# Altium footprint library Basics.PcbLib: 19 footprints (part 1 of 2)
Each footprint in its own frame and in the unit in brackets; x right, y up, seen from the top. Pads: shape width x height; smd on the part's side, far side on the other; paste and mask are expansions set on the pad; w line width, h text height; cw(c..) or ccw(c..) is an arc to the next point about the centre after c.
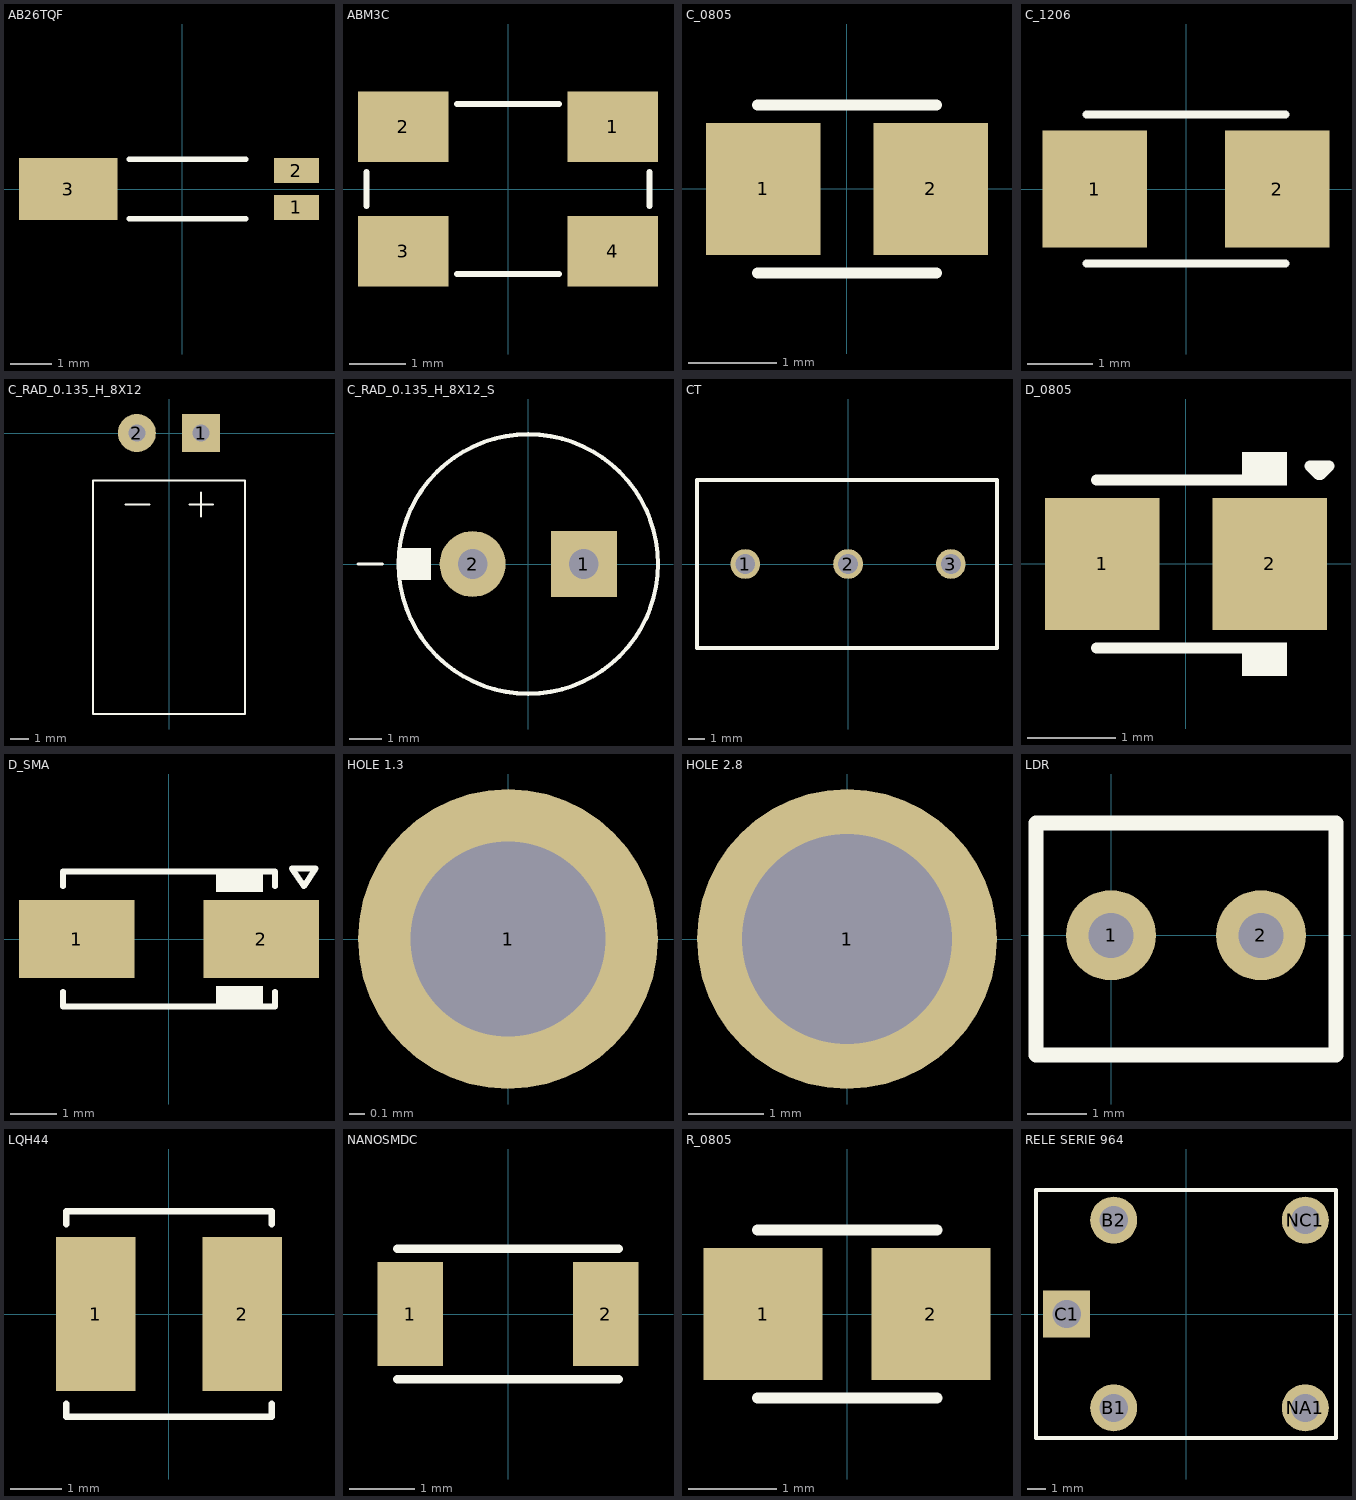
[diagram p0: the footprints below, top view; thin cyan lines are the x and y axes]

## AB26TQF [mm]
pads (3):
  rect 1.1x0.6 smd: 1(2.775,-0.45) 2(2.775,0.45)
  rect 2.4x1.5 smd: 3(-2.775,0)
Top Overlay:
  lines w0.127: -1.295,-0.725 1.549,-0.725 ; -1.295,0.725 1.549,0.725
3D body "AB26TRQ.STEP": height 1.53, standoff -0.12, extent -3.877,-0.675 2.827,0.775

## ABM3C [mm]
pads (4):
  rect 1.6x1.25 smd: 1(1.85,1.1) 2(-1.85,1.1) 3(-1.85,-1.1) 4(1.85,-1.1)
Top Overlay:
  lines w0.102: -2.5,-0.3 -2.5,0.3 ; -0.9,-1.5 0.9,-1.5 ; -0.9,1.5 0.9,1.5 ; 2.5,-0.3 2.5,0.3
3D body "ABM3C.STEP": height 1.3, standoff 0, extent -2.5,-1.6 2.5,1.6

## C_0805 [mm] "Chip Capacitor, 2-Leads, Body 2.00x1.25mm"
height 1.1
pads (2):
  rect 1.3x1.5 smd: 1(-0.95,0) 2(0.95,0)
Top Overlay:
  lines w0.127: -1.016,-0.953 1.016,-0.953 ; -1.016,0.953 1.016,0.953
3D body "SW3dPS-0805 SMD Capacitor.STEP": height 0.78, standoff 0, extent -1,-0.625 1,0.625

## C_1206 [mm]
pads (2):
  rect 1.6x1.8 smd: 1(-1.4,0) 2(1.4,0)
Top Overlay:
  lines w0.127: -1.524,-1.143 1.524,-1.143 ; -1.524,1.143 1.524,1.143
3D body "SW3dPS-1206 SMD Capacitor.STEP": height 1, standoff 0, extent -1.6,-0.8 1.6,0.8

## C_RAD_0.135_H_8X12 [mil]
pads (2):
  rect 80x80 hole 36: 1(67.5,0)
  round 80 hole 36: 2(-67.5,0)
Top Overlay:
  lines w4: -91.12,-150 -41.12,-150 ; 42.5,-150 92.5,-150 ; 67.5,-175 67.5,-125 ; -160,-590.12 160,-590.12 160,-100 -160,-100 -160,-590.12
3D body "User Library-Cap electrolitic radial 8x12.STEP": height 334.58, standoff 19.69, extent -157.42,-590.55 157.43,-59.06

## C_RAD_0.135_H_8X12_S [mil]
pads (2):
  rect 80x80 hole 36: 1(67.5,0)
  round 80 hole 36: 2(-67.5,0)
Top Overlay:
  circle w5: c0,0 r157.48
  rectangle: -157.48,-19.68 -118.11,19.69
  lines w4: -206.69,0 -177.17,0
3D body "User Library-Cap-EL(8x12-3_5)T.STEP": height 484.33, standoff -129.92, extent -157.56,-157.41 157.48,157.4

## CT [mm] "Current transformer"
pads (3):
  round 1.8 hole 1.2: 1(-6.223,0) 2(0,0) 3(6.223,0)
Top Overlay:
  lines w0.254: -9.144,-5.08 -9.144,5.08 9.017,5.08 9.017,-5.08 -9.144,-5.08
3D body "zmct103c.stp": height 19, standoff -3.9, extent -9,-5 9,5

## D_0805 [mm]
pads (2):
  rect 1.3x1.5 smd: 1(-0.95,0) 2(0.95,0)
Top Overlay:
  rectangle: 0.635,-1.27 1.143,-0.889
  rectangle: 0.635,0.889 1.143,1.27
  lines w0.127: -1.016,-0.953 1.016,-0.953 ; -1.016,0.953 1.016,0.953 ; 1.405,1.111 1.619,1.111 1.524,1.016 1.5,1.016 1.405,1.111
3D body "User Library-User Library-led_0805 YEL.STEP": height 1.12, standoff -0.02, extent -1.01,-0.663 1.01,0.625

## D_SMA [mm]
height 2.4
pads (2):
  rect 2.5x1.7 smd: 1(-2,0) 2(2,0)
Top Overlay:
  rectangle: 1.016,1.016 2.032,1.524
  rectangle: 1.016,-1.524 2.032,-1.016
  lines w0.127: -2.3,-1.143 -2.3,-1.46 2.3,-1.46 2.3,-1.143 ; -2.3,1.143 -2.3,1.46 2.3,1.46 2.3,1.143 ; 2.667,1.524 3.175,1.524 2.921,1.143 2.667,1.524
3D body "User Library-DO-214AC(SMA).STEP": height 2.39, standoff 0.11, extent -2.743,-1.397 2.743,1.397

## HOLE 1.3 [mm] "IN=1.3mm; OUT=2mm"
pads (1):
  round 2 hole 1.3: 1(0,0)

## HOLE 2.8 [mm] "IN=2.8mm; OUT=4mm"
pads (1):
  round 4 hole 2.8: 1(0,0)

## LDR [mil] "Light Dependant Resistor"
pads (2):
  round 60 hole 30: 1(0,0) 2(100,0)
Top Overlay:
  lines w10: -50,-80 -50,75 150,75 150,-80 -50,-80
3D body "LDR-GL5516.step": height 480.31, standoff -858.27, extent -50,-79.22 147.79,79.22

## LQH44 [mm]
pads (2):
  rect 1.55x3 smd: 1(-1.425,0) 2(1.425,0)
Top Overlay:
  lines w0.127: -2,-1.75 -2,-2 2,-2 2,-1.75 ; -2,1.75 -2,2 2,2 2,1.75
3D body "LQH44PN_P0.stp": height 1.65, standoff 0, extent -2,-1.997 2,1.998

## NANOSMDC [mm]
pads (2):
  rect 1x1.6 smd: 1(-1.5,0) 2(1.5,0)
Top Overlay:
  lines w0.127: -1.7,-1 1.7,-1 ; -1.7,1 1.7,1
3D body "User Library-FUSER_nanoSMD.STEP": height 1, standoff 0, extent -1.603,-0.8 1.603,0.8

## R_0805 [mm] "Chip Resistor, 2-Leads, Body 2.00x1.25mm, IPC Low Density"
height 0.65
pads (2):
  rect 1.35x1.5 smd: 1(-0.95,0) 2(0.95,0)
Top Overlay:
  lines w0.127: -1.016,-0.953 1.016,-0.953 ; -1.016,0.953 1.016,0.953
3D body "User Library-CR2012-0805.STEP": height 0.6, standoff 0, extent -1,-0.625 1,0.625

## RELE SERIE 964 [mm]
pads (5):
  round 2.5 hole 1.5: B1(-3.85,-5) B2(-3.85,5) NA1(6.35,-5) NC1(6.35,5)
  rect 2.5x2.5 hole 1.5: C1(-6.35,0)
Top Overlay:
  lines w0.2: -7.985,-6.604 7.985,-6.604 7.985,6.604 -7.985,6.604 -7.985,-6.604
3D body "User Library-T74 4181.STEP": height 13.66, standoff -3.94, extent -7.85,-6.096 7.85,6.204